# Altium footprint library Type-C.PcbLib: 9 footprints
Each footprint in its own frame and in the unit in brackets; x right, y up, seen from the top. Pads: shape width x height; smd on the part's side, far side on the other; paste and mask are expansions set on the pad; w line width, h text height; cw(c..) or ccw(c..) is an arc to the next point about the centre after c.
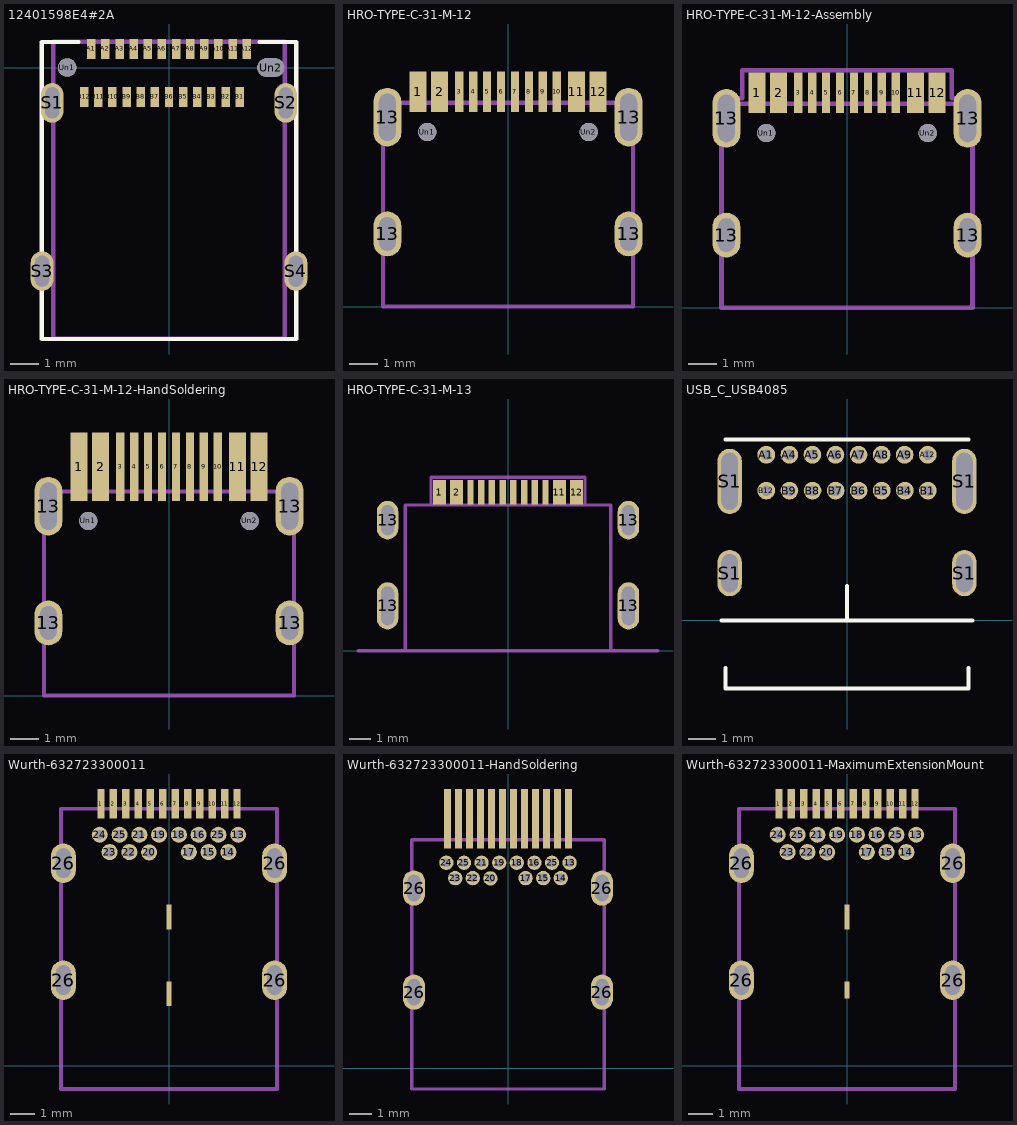
[diagram p0: the footprints below, top view; thin cyan lines are the x and y axes]

## 12401598E4#2A [mm]
pads (30):
  rect 0.3x0.7 smd: A1(-2.75,0.66) A2(-2.25,0.66) A3(-1.75,0.66) A4(-1.25,0.66) A5(-0.75,0.66) A6(-0.25,0.66) A7(0.25,0.66) A8(0.75,0.66) A9(1.25,0.66) A10(1.75,0.66) A11(2.25,0.66) A12(2.75,0.66) B1(2.5,-1.04) B2(2,-1.04) B3(1.5,-1.04) B4(1,-1.04) B5(0.5,-1.04) B6(0,-1.04) B7(-0.5,-1.04) B8(-1,-1.04) B9(-1.5,-1.04) B10(-2,-1.04) B11(-2.5,-1.04) B12(-3,-1.04)
  rrect100% 0.8x1.4 hole 1.1 slot 0.5 at 0 deg: S1(-4.13,-1.25) S2(4.13,-1.25) S3(-4.49,-7.2) S4(4.49,-7.2)
  round 0.65 hole 0.65: Un1(-3.6,0)
  rrect100% 0.95x0.65 hole 0.65 slot 0.95 at 0 deg: Un2(3.6,0)
F.SilkS:
  lines w0.15: -3.2,0.9 -4.5,0.9 -4.5,-9.6 4.5,-9.6 4.5,0.9 3.2,0.9
F.Fab:
  lines w0.15: -4.09,-9.59 -4.09,0.91 4.09,0.91 4.09,-9.59 -4.09,-9.59

## HRO-TYPE-C-31-M-12 [mm]
pads (18):
  rect 0.6x1.45 smd: 1(-3.225,7.695) 2(-2.45,7.695) 11(2.45,7.695) 12(3.225,7.695)
  rect 0.3x1.45 smd: 3(-1.75,7.695) 4(-1.25,7.695) 5(-0.75,7.695) 6(-0.25,7.695) 7(0.25,7.695) 8(0.75,7.695) 9(1.25,7.695) 10(1.75,7.695)
  rrect100% 1x1.6 hole 1.2 slot 0.6 at 0 deg: 13(-4.32,2.6) 13(4.32,2.6)
  rrect100% 1x2.1 hole 1.7 slot 0.6 at 0 deg: 13(-4.32,6.78) 13(4.32,6.78)
  round 0.65 hole 0.65: Un1(-2.89,6.25) Un2(2.89,6.25)
Dwgs.User:
  lines w0.15: -4.47,0 -4.47,7.3 4.47,7.3 4.47,0 -4.47,0
3D body "TYPE-C-31-M-12--3DModel-STEP-56544.STEP": height 3.31, standoff -0.99, extent -4.47,0 4.47,7.905

## HRO-TYPE-C-31-M-12-Assembly [mm]
pads (18):
  rect 0.6x1.45 smd: 1(-3.225,7.695) 2(-2.45,7.695) 11(2.45,7.695) 12(3.225,7.695)
  rect 0.3x1.45 smd: 3(-1.75,7.695) 4(-1.25,7.695) 5(-0.75,7.695) 6(-0.25,7.695) 7(0.25,7.695) 8(0.75,7.695) 9(1.25,7.695) 10(1.75,7.695)
  rrect100% 1x1.6 hole 1.2 slot 0.6 at 0 deg: 13(-4.32,2.6) 13(4.32,2.6)
  rrect100% 1x2.1 hole 1.7 slot 0.6 at 0 deg: 13(-4.32,6.78) 13(4.32,6.78)
  round 0.65 hole 0.65: Un1(-2.89,6.25) Un2(2.89,6.25)
Dwgs.User:
  lines w0.15: -4.47,0 -4.47,7.3 4.47,7.3 4.47,0 -4.47,0
F.CrtYd:
  lines w0.15: -4.5,0 4.5,0 4.5,7.5 3.75,7.5 3.75,8.5 -3.75,8.5 -3.75,7.5 -4.5,7.5 -4.5,0
F.Fab:
  text "'.Designator'" at -4.047,8.41 h1

## HRO-TYPE-C-31-M-12-HandSoldering [mm]
pads (18):
  rect 0.6x2.45 smd: 1(-3.225,8.195) 2(-2.45,8.195) 11(2.45,8.195) 12(3.225,8.195)
  rect 0.3x2.45 smd: 3(-1.75,8.195) 4(-1.25,8.195) 5(-0.75,8.195) 6(-0.25,8.195) 7(0.25,8.195) 8(0.75,8.195) 9(1.25,8.195) 10(1.75,8.195)
  rrect100% 1x1.6 hole 1.2 slot 0.6 at 0 deg: 13(-4.32,2.6) 13(4.32,2.6)
  rrect100% 1x2.1 hole 1.7 slot 0.6 at 0 deg: 13(-4.32,6.78) 13(4.32,6.78)
  round 0.65 hole 0.65: Un1(-2.89,6.25) Un2(2.89,6.25)
Dwgs.User:
  lines w0.15: -4.47,0 -4.47,7.3 4.47,7.3 4.47,0 -4.47,0

## HRO-TYPE-C-31-M-13 [mm]
pads (16):
  rect 0.6x1.15 smd: 1(-3.2,7.4) 2(-2.4,7.4) 11(2.4,7.4) 12(3.2,7.4)
  rect 0.3x1.15 smd: 3(-1.75,7.4) 4(-1.25,7.4) 5(-0.75,7.4) 6(-0.25,7.4) 7(0.25,7.4) 8(0.75,7.4) 9(1.25,7.4) 10(1.75,7.4)
  rrect100% 1x2.2 hole 1.8 slot 0.6 at 0 deg: 13(-5.62,2.1) 13(5.62,2.1)
  rrect100% 1x1.8 hole 1.4 slot 0.6 at 0 deg: 13(-5.62,6.1) 13(5.62,6.1)
Dwgs.User:
  lines w0.15: -7,0 -4.8,0 ; 4.8,0 7,0
F.Fab:
  lines w0.15: -3.6,6.8 -3.6,8.1 3.6,8.1 3.6,6.8 ; -4.8,0 -4.8,6.8 4.8,6.8 4.8,0 -4.8,0
  text "'.Designator'" at -4.047,8.41 h1

## USB_C_USB4085 [mm]
pads (20):
  round 0.65 hole 0.4: A1(-2.975,6.1) A4(-2.125,6.1) A5(-1.275,6.1) A6(-0.425,6.1) A7(0.425,6.1) A8(1.275,6.1) A9(2.125,6.1) A12(2.975,6.1) B1(2.98,4.775) B4(2.13,4.775) B5(1.28,4.775) B6(0.43,4.775) B7(-0.42,4.775) B8(-1.27,4.775) B9(-2.12,4.775) B12(-2.975,4.775)
  rrect100% 0.9x1.7 hole 1.4 slot 0.6 at 0 deg: S1(-4.325,1.74) S1(4.325,1.74)
  rrect100% 0.9x2.4 hole 2.1 slot 0.6 at 0 deg: S1(-4.325,5.12) S1(4.325,5.12)
F.SilkS:
  lines w0.15: -4.625,0 4.625,0 ; -4.48,-1.75 -4.475,-2.51 4.475,-2.51 4.48,-1.75 ; -4.475,6.66 4.475,6.66 ; 0,0 0,1.27

## Wurth-632723300011 [mm]
pads (32):
  rect 0.3x1.2 smd: 1(-2.75,10.58) 2(-2.25,10.58) 3(-1.75,10.58) 4(-1.25,10.58) 5(-0.75,10.58) 6(-0.25,10.58) 7(0.25,10.58) 8(0.75,10.58) 9(1.25,10.58) 10(1.75,10.58) 11(2.25,10.58) 12(2.75,10.58)
  round 0.65 hole 0.4: 13(2.8,9.33) 14(2.4,8.63) 15(1.6,8.63) 16(1.2,9.33) 17(0.8,8.63) 18(0.4,9.33) 19(-0.4,9.33) 20(-0.8,8.62) 21(-1.2,9.33) 22(-1.6,8.63) 23(-2.4,8.63) 24(-2.8,9.33) 25(-2,9.33) 25(2,9.33)
  rrect100% 1x1.6 hole 1.2 slot 0.6 at 0 deg: 26(-4.27,3.45) 26(-4.27,8.18) 26(4.27,3.45) 26(4.27,8.18)
  rect 0.2x1 smd: 27(0,2.9) 27(0,6)
Dwgs.User:
  lines w0.15: -4.37,-0.95 4.37,-0.95 4.37,10.38 -4.37,10.38 -4.37,-0.95

## Wurth-632723300011-HandSoldering [mm]
pads (30):
  rect 0.3x2.7 smd: 1(-2.75,11.33) 2(-2.25,11.33) 3(-1.75,11.33) 4(-1.25,11.33) 5(-0.75,11.33) 6(-0.25,11.33) 7(0.25,11.33) 8(0.75,11.33) 9(1.25,11.33) 10(1.75,11.33) 11(2.25,11.33) 12(2.75,11.33)
  round 0.65 hole 0.4: 13(2.8,9.33) 14(2.4,8.63) 15(1.6,8.63) 16(1.2,9.33) 17(0.8,8.63) 18(0.4,9.33) 19(-0.4,9.33) 20(-0.8,8.62) 21(-1.2,9.33) 22(-1.6,8.63) 23(-2.4,8.63) 24(-2.8,9.33) 25(-2,9.33) 25(2,9.33)
  rrect100% 1x1.6 hole 1.2 slot 0.6 at 0 deg: 26(-4.27,3.45) 26(-4.27,8.18) 26(4.27,3.45) 26(4.27,8.18)
Dwgs.User:
  lines w0.15: -4.37,-0.95 4.37,-0.95 4.37,10.38 -4.37,10.38 -4.37,-0.95

## Wurth-632723300011-MaximumExtensionMount [mm]
pads (32):
  rect 0.3x1.2 smd: 1(-2.75,10.58) 2(-2.25,10.58) 3(-1.75,10.58) 4(-1.25,10.58) 5(-0.75,10.58) 6(-0.25,10.58) 7(0.25,10.58) 8(0.75,10.58) 9(1.25,10.58) 10(1.75,10.58) 11(2.25,10.58) 12(2.75,10.58)
  round 0.65 hole 0.4: 13(2.8,9.33) 14(2.4,8.63) 15(1.6,8.63) 16(1.2,9.33) 17(0.8,8.63) 18(0.4,9.33) 19(-0.4,9.33) 20(-0.8,8.62) 21(-1.2,9.33) 22(-1.6,8.63) 23(-2.4,8.63) 24(-2.8,9.33) 25(-2,9.33) 25(2,9.33)
  rrect100% 1x1.6 hole 1.2 slot 0.6 at 0 deg: 26(-4.27,3.45) 26(-4.27,8.18) 26(4.27,3.45) 26(4.27,8.18)
  rect 0.2x0.7 smd: 27(0,3.05)
  rect 0.2x1 smd: 27(0,6)
Dwgs.User:
  lines w0.15: -4.37,-0.95 4.37,-0.95 4.37,10.38 -4.37,10.38 -4.37,-0.95